# Altium footprint library Potentiometer_THT.PcbLib: 112 footprints (part 1 of 7)
Each footprint in its own frame and in the unit in brackets; x right, y up, seen from the top. Pads: shape width x height; smd on the part's side, far side on the other; paste and mask are expansions set on the pad; w line width, h text height; cw(c..) or ccw(c..) is an arc to the next point about the centre after c.
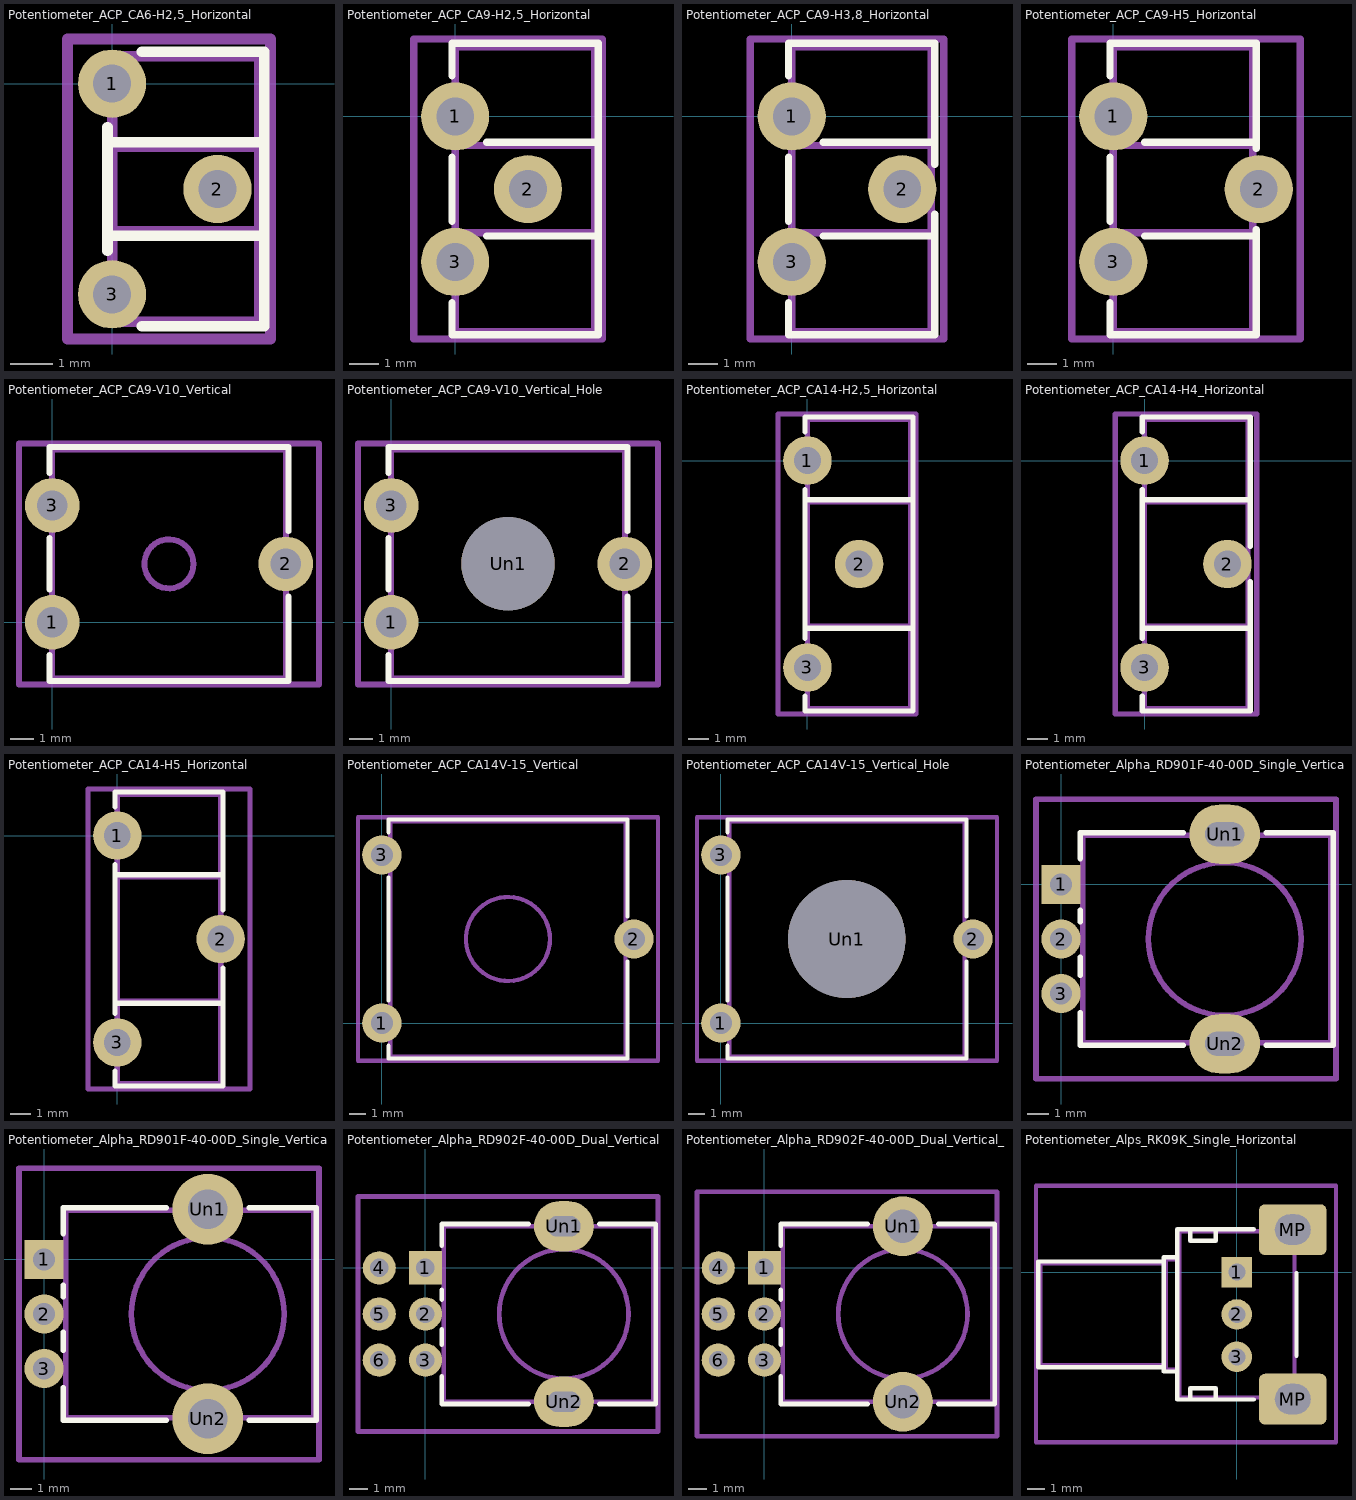
[diagram p0: the footprints below, top view; thin cyan lines are the x and y axes]

## Potentiometer_ACP_CA6-H2,5_Horizontal [mm]
pads (3):
  round 1.62 hole 0.9: 1(0,0) 2(2.5,-2.5) 3(0,-5)
F.SilkS:
  lines w0.254: -0.11,-3.966 -0.11,-1.034 ; 0.71,-5.76 3.61,-5.76 3.61,0.76 0.71,0.76 ; -0.11,-3.61 3.61,-3.61 3.61,-1.39 -0.11,-1.39 -0.11,-3.61
F.Fab:
  lines w0.254: 0,-5.65 3.5,-5.65 3.5,0.65 0,0.65 0,-5.65 ; 0,-3.5 3.5,-3.5 3.5,-1.5 0,-1.5 0,-3.5
  text "'.Designator'" at -1.409,-3.158 h0.78
F.CrtYd:
  lines w0.254: -1.06,-6.06 3.76,-6.06 3.76,1.06 -1.06,1.06 -1.06,-6.06

## Potentiometer_ACP_CA9-H2,5_Horizontal [mm]
pads (3):
  round 2.34 hole 1.3: 1(0,0) 2(2.5,-2.5) 3(0,-5)
F.SilkS:
  lines w0.254: -0.11,-6.396 -0.11,-7.51 4.91,-7.51 4.91,2.51 -0.11,2.51 -0.11,1.396 ; 1.081,-4.11 4.91,-4.11 4.91,-0.89 1.081,-0.89 ; -0.11,-3.604 -0.11,-1.396 -0.11,-3.604
F.Fab:
  lines w0.254: 0,-7.4 0,2.4 4.8,2.4 4.8,-7.4 0,-7.4 ; 0,-4 0,-1 4.8,-1 4.8,-4 0,-4
  text "'.Designator'" at -1.647,-3.34 h1
F.CrtYd:
  lines w0.254: -1.42,-7.65 -1.42,2.66 5.05,2.66 5.05,-7.65 -1.42,-7.65

## Potentiometer_ACP_CA9-H3,8_Horizontal [mm]
pads (3):
  round 2.34 hole 1.3: 1(0,0) 2(3.8,-2.5) 3(0,-5)
F.SilkS:
  lines w0.254: -0.11,-6.396 -0.11,-7.51 4.91,-7.51 4.91,-3.353 4.91,-4.11 1.081,-4.11 ; -0.11,1.396 -0.11,2.51 4.91,2.51 4.91,-1.647 4.91,-0.89 1.081,-0.89 ; -0.11,-3.604 -0.11,-1.396 -0.11,-3.604
F.Fab:
  lines w0.254: 0,-7.4 0,2.4 4.8,2.4 4.8,-7.4 0,-7.4 ; 0,-4 0,-1 4.8,-1 4.8,-4 0,-4
  text "'.Designator'" at -1.647,-3.34 h1
F.CrtYd:
  lines w0.254: -1.42,-7.65 -1.42,2.66 5.22,2.66 5.22,-7.65 -1.42,-7.65

## Potentiometer_ACP_CA9-H5_Horizontal [mm]
pads (3):
  round 2.34 hole 1.3: 1(0,0) 2(5,-2.5) 3(0,-5)
F.SilkS:
  lines w0.254: -0.11,-6.396 -0.11,-7.51 4.91,-7.51 4.91,-3.897 4.91,-4.11 1.081,-4.11 ; -0.11,1.396 -0.11,2.51 4.91,2.51 4.91,-1.103 4.91,-0.89 1.081,-0.89 ; -0.11,-3.604 -0.11,-1.396 -0.11,-3.604
F.Fab:
  lines w0.254: 0,-7.4 0,2.4 4.8,2.4 4.8,-7.4 0,-7.4 ; 0,-4 0,-1 4.8,-1 4.8,-4 0,-4
  text "'.Designator'" at -1.647,-3.34 h1
F.CrtYd:
  lines w0.254: -1.42,-7.65 -1.42,2.66 6.42,2.66 6.42,-7.65 -1.42,-7.65

## Potentiometer_ACP_CA9-V10_Vertical [mm]
pads (3):
  round 2.34 hole 1.3: 1(0,0) 2(10,2.5) 3(0,5)
F.SilkS:
  lines w0.254: -0.11,-1.396 -0.11,-2.51 10.11,-2.51 10.11,1.104 ; -0.11,1.396 -0.11,3.604 ; -0.11,6.396 -0.11,7.51 10.11,7.51 10.11,3.896
F.Fab:
  circle w0.254: c5,2.5 r1.05
  lines w0.254: 0,-2.4 0,7.4 10,7.4 10,-2.4 0,-2.4
  text "'.Designator'" at 1.84,-1.547 h1
F.CrtYd:
  lines w0.254: -1.42,-2.66 -1.42,7.65 11.42,7.65 11.42,-2.66 -1.42,-2.66

## Potentiometer_ACP_CA9-V10_Vertical_Hole [mm]
pads (4):
  round 2.34 hole 1.3: 1(0,0) 2(10,2.5) 3(0,5)
  round 4 hole 4: Un1(5,2.5)
F.SilkS:
  lines w0.254: -0.11,-1.396 -0.11,-2.51 10.11,-2.51 10.11,1.104 ; -0.11,1.396 -0.11,3.604 ; -0.11,6.396 -0.11,7.51 10.11,7.51 10.11,3.896
F.Fab:
  lines w0.254: 0,-2.4 0,7.4 10,7.4 10,-2.4 0,-2.4
  text "'.Designator'" at 1.84,-1.547 h1
F.CrtYd:
  lines w0.254: -1.42,-2.66 -1.42,7.65 11.42,7.65 11.42,-2.66 -1.42,-2.66

## Potentiometer_ACP_CA14-H2,5_Horizontal [mm]
pads (3):
  round 2.34 hole 1.3: 1(0,0) 2(2.5,-5) 3(0,-10)
F.SilkS:
  lines w0.254: -0.11,-11.396 -0.11,-12.11 5.11,-12.11 5.11,2.11 -0.11,2.11 -0.11,1.396 ; -0.11,-8.604 -0.11,-1.396 ; -0.11,-8.11 -0.11,-1.89 5.11,-1.89 5.11,-8.11 -0.11,-8.11
F.Fab:
  lines w0.254: 0,-12 0,2 5,2 5,-12 0,-12 ; 0,-8 0,-2 5,-2 5,-8 0,-8
  text "'.Designator'" at -1.547,-5.84 h1
F.CrtYd:
  lines w0.254: -1.42,-12.25 -1.42,2.25 5.25,2.25 5.25,-12.25 -1.42,-12.25

## Potentiometer_ACP_CA14-H4_Horizontal [mm]
pads (3):
  round 2.34 hole 1.3: 1(0,0) 2(4,-5) 3(0,-10)
F.SilkS:
  lines w0.254: -0.11,-11.396 -0.11,-12.11 5.11,-12.11 5.11,-5.853 5.11,-8.11 -0.11,-8.11 -0.11,-1.89 5.11,-1.89 5.11,-4.147 5.11,2.11 -0.11,2.11 -0.11,1.396 ; -0.11,-8.604 -0.11,-1.396
F.Fab:
  lines w0.254: 0,-12 0,2 5,2 5,-12 0,-12 ; 0,-8 0,-2 5,-2 5,-8 0,-8
  text "'.Designator'" at -1.547,-5.84 h1
F.CrtYd:
  lines w0.254: -1.42,-12.25 -1.42,2.25 5.42,2.25 5.42,-12.25 -1.42,-12.25

## Potentiometer_ACP_CA14-H5_Horizontal [mm]
pads (3):
  round 2.34 hole 1.3: 1(0,0) 2(5,-5) 3(0,-10)
F.SilkS:
  lines w0.254: -0.11,-11.396 -0.11,-12.11 5.11,-12.11 5.11,-6.396 5.11,-8.11 -0.11,-8.11 -0.11,-1.89 5.11,-1.89 5.11,-3.604 5.11,2.11 -0.11,2.11 -0.11,1.396 ; -0.11,-8.604 -0.11,-1.396
F.Fab:
  lines w0.254: 0,-12 0,2 5,2 5,-12 0,-12 ; 0,-8 0,-2 5,-2 5,-8 0,-8
  text "'.Designator'" at -1.547,-5.84 h1
F.CrtYd:
  lines w0.254: -1.42,-12.25 -1.42,2.25 6.42,2.25 6.42,-12.25 -1.42,-12.25

## Potentiometer_ACP_CA14V-15_Vertical [mm]
pads (3):
  round 2.34 hole 1.3: 1(0,0) 2(15,5) 3(0,10)
F.SilkS:
  lines w0.254: 0.39,-1.345 0.39,-2.11 14.61,-2.11 14.61,3.655 ; 0.39,1.345 0.39,8.655 ; 0.39,11.345 0.39,12.11 14.61,12.11 14.61,6.345
F.Fab:
  circle w0.254: c7.5,5 r2.5
  lines w0.254: 0.5,-2 0.5,12 14.5,12 14.5,-2 0.5,-2
  text "'.Designator'" at 2.34,0.953 h1
F.CrtYd:
  lines w0.254: -1.42,-2.25 -1.42,12.25 16.43,12.25 16.43,-2.25 -1.42,-2.25

## Potentiometer_ACP_CA14V-15_Vertical_Hole [mm]
pads (4):
  round 2.34 hole 1.3: 1(0,0) 2(15,5) 3(0,10)
  round 7 hole 7: Un1(7.5,5)
F.SilkS:
  lines w0.254: 0.39,-1.345 0.39,-2.11 14.61,-2.11 14.61,3.655 ; 0.39,1.345 0.39,8.655 ; 0.39,11.345 0.39,12.11 14.61,12.11 14.61,6.345
F.Fab:
  lines w0.254: 0.5,-2 0.5,12 14.5,12 14.5,-2 0.5,-2
  text "'.Designator'" at 2.34,0.953 h1
F.CrtYd:
  lines w0.254: -1.42,-2.25 -1.42,12.25 16.43,12.25 16.43,-2.25 -1.42,-2.25

## Potentiometer_Alpha_RD901F-40-00D_Single_Vertical [mm]
pads (5):
  rect 1.8x1.8 hole 1: 1(0,0)
  round 1.8 hole 1: 2(0,-2.5) 3(0,-5)
  rrect100% 3.24x2.72 hole 1.8 slot 1.1 at 90 deg: Un1(7.5,2.3) Un2(7.5,-7.3)
F.SilkS:
  lines w0.254: 0.88,-5.88 0.88,-7.37 5.6,-7.37 ; 0.88,-4.16 0.88,-3.33 ; 0.88,-1.71 0.88,-1.18 ; 0.88,1.19 0.88,2.37 ; 0.88,2.38 5.6,2.38 ; 9.41,-7.37 12.47,-7.37 12.47,2.37 9.41,2.37
F.Fab:
  circle w0.254: c7.5,-2.5 r3.5
  lines w0.254: 1,-7.25 1,2.25 12.35,2.25 12.35,-7.25 1,-7.25
  text "'.Designator'" at 3.573,-3.38 h1
F.CrtYd:
  lines w0.254: -1.15,-8.91 -1.15,3.91 12.6,3.91 12.6,-8.91 -1.15,-8.91

## Potentiometer_Alpha_RD901F-40-00D_Single_Vertical_CircularHoles [mm]
pads (5):
  rect 1.8x1.8 hole 1: 1(0,0)
  round 1.8 hole 1: 2(0,-2.5) 3(0,-5)
  round 3.24 hole 1.8: Un1(7.5,2.3) Un2(7.5,-7.3)
F.SilkS:
  lines w0.254: 0.88,-5.88 0.88,-7.37 5.6,-7.37 ; 0.88,-4.16 0.88,-3.33 ; 0.88,-1.71 0.88,-1.18 ; 0.88,1.19 0.88,2.37 ; 0.88,2.38 5.6,2.38 ; 9.41,-7.37 12.47,-7.37 12.47,2.37 9.41,2.37
F.Fab:
  circle w0.254: c7.5,-2.5 r3.5
  lines w0.254: 1,-7.25 1,2.25 12.35,2.25 12.35,-7.25 1,-7.25
  text "'.Designator'" at 3.573,-3.38 h1
F.CrtYd:
  lines w0.254: -1.15,-9.17 -1.15,4.17 12.6,4.17 12.6,-9.17 -1.15,-9.17

## Potentiometer_Alpha_RD902F-40-00D_Dual_Vertical [mm]
pads (8):
  rect 1.8x1.8 hole 1: 1(0,0)
  round 1.8 hole 1: 2(0,-2.5) 3(0,-5) 4(-2.5,0) 5(-2.5,-2.5) 6(-2.5,-5)
  rrect100% 3.24x2.72 hole 1.8 slot 1.1 at 90 deg: Un1(7.5,2.25) Un2(7.5,-7.25)
F.SilkS:
  lines w0.254: 0.88,-5.88 0.88,-7.37 5.6,-7.37 ; 0.88,-4.16 0.88,-3.33 ; 0.88,-1.71 0.88,-1.18 ; 0.88,1.19 0.88,2.37 5.6,2.37 ; 9.41,-7.37 12.47,-7.37 12.47,2.37 9.41,2.37
F.Fab:
  circle w0.254: c7.5,-2.5 r3.5
  lines w0.254: 1,-7.25 1,2.25 12.35,2.25 12.35,-7.25 1,-7.25
  text "'.Designator'" at 3.573,-3.38 h1
F.CrtYd:
  lines w0.254: -3.65,-8.86 -3.65,3.86 12.6,3.86 12.6,-8.86 -3.65,-8.86

## Potentiometer_Alpha_RD902F-40-00D_Dual_Vertical_CircularHoles [mm]
pads (8):
  rect 1.8x1.8 hole 1: 1(0,0)
  round 1.8 hole 1: 2(0,-2.5) 3(0,-5) 4(-2.5,0) 5(-2.5,-2.5) 6(-2.5,-5)
  round 3.24 hole 1.8: Un1(7.5,2.25) Un2(7.5,-7.25)
F.SilkS:
  lines w0.254: 0.88,-5.88 0.88,-7.37 5.6,-7.37 ; 0.88,-4.16 0.88,-3.33 ; 0.88,-1.71 0.88,-1.18 ; 0.88,1.19 0.88,2.37 5.6,2.37 ; 9.41,-7.37 12.47,-7.37 12.47,2.37 9.41,2.37
F.Fab:
  circle w0.254: c7.5,-2.5 r3.5
  lines w0.254: 1,-7.25 1,2.25 12.35,2.25 12.35,-7.25 1,-7.25
  text "'.Designator'" at 3.573,-3.38 h1
F.CrtYd:
  lines w0.254: -3.65,-9.12 -3.65,4.12 12.6,4.12 12.6,-9.12 -3.65,-9.12

## Potentiometer_Alps_RK09K_Single_Horizontal [mm]
pads (5):
  rect 1.8x1.8 hole 1: 1(0,0)
  round 1.8 hole 1: 2(0,-2.5) 3(0,-5)
  rrect25% 4x3 hole 1.8 slot 2.1 at 0 deg: MP(3.3,-7.5) MP(3.3,2.5)
F.SilkS:
  lines w0.254: -4.32,-5.62 -11.72,-5.62 -11.72,0.62 -4.32,0.62 ; -3.52,-5.87 -4.32,-5.87 -4.32,0.87 -3.52,0.87 ; 1,-7.521 -1.25,-7.521 ; 1,2.52 -1.25,2.52 ; 3.52,-4.944 3.52,-0.055 ; -2.75,-7.521 -3.52,-7.521 -3.52,2.52 -2.75,2.52 ; -2.75,-7.521 -2.75,-6.85 -1.25,-6.85 -1.25,-7.521 ; -2.75,-7.521 -1.25,-7.521 ; -2.75,2.52 -2.75,1.85 -1.25,1.85 -1.25,2.52 ; -2.75,2.52 -1.25,2.52
F.Fab:
  lines w0.254: -4.2,-5.5 -11.6,-5.5 -11.6,0.5 -4.2,0.5 ; -3.4,-5.75 -4.2,-5.75 -4.2,0.75 -3.4,0.75 ; -3.4,-7.4 -3.4,2.4 3.4,2.4 3.4,-7.4 -3.4,-7.4
  text "'.Designator'" at -4.047,-3.34 h1
F.CrtYd:
  lines w0.254: -11.85,-10.05 -11.85,5.1 5.85,5.1 5.85,-10.05 -11.85,-10.05